# Altium schematic symbol library Transistor.SchLib: 11 symbols
Pins are listed as number, name and electrical type; pins without a type are passive.

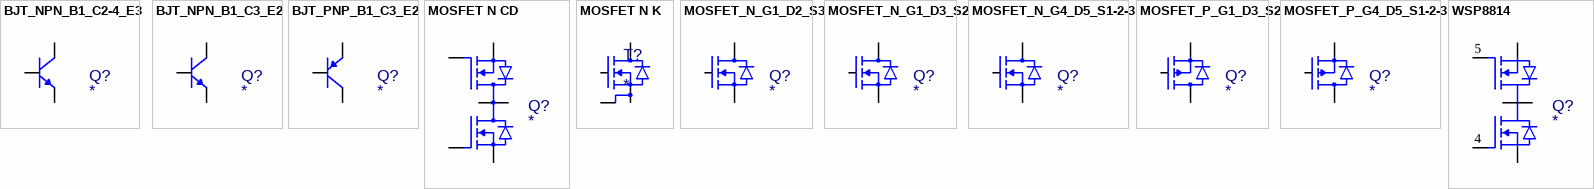
[diagram p0: symbols BJT_NPN_B1_C2-4_E3 to WSP8814]

## BJT_NPN_B1_C2-4_E3
designator Q?
pins: 1 BASE, 2,4 COLLECTOR, 3 EMITTER

## BJT_NPN_B1_C3_E2
designator Q?
pins: 1 BASE, 2 EMITTER, 3 COLLECTOR

## BJT_PNP_B1_C3_E2
designator Q?
pins: 1 BASE, 2 EMITTER, 3 COLLECTOR

## MOSFET N CD
designator Q?
pins: 1 SOURCE1, 2 DRAIN, 3 SOURCE2, 4 GATE2, 5 DRAIN, 6 GATE1

## MOSFET N K
designator T?
pins: D, G, K, S

## MOSFET_N_G1_D2_S3
designator Q?
pins: 1 GATE, 2 DRAIN, 3 SOURCE

## MOSFET_N_G1_D3_S2
designator Q?
pins: 1 GATE, 2 SOURCE, 3 DRAIN

## MOSFET_N_G4_D5_S1-2-3
designator Q?
pins: 1,2,3 SOURCE, 4 GATE, 5 DRAIN

## MOSFET_P_G1_D3_S2
designator Q?
pins: 1 GATE, 2 SOURCE, 3 DRAIN

## MOSFET_P_G4_D5_S1-2-3
designator Q?
pins: 1,2,3 SOURCE, 4 GATE, 5 DRAIN

## WSP8814
designator Q?
MOSFET Common Drain
pins: 1 D, 2 S1, 3 S1, 4 G1, 5 G2, 6 S2, 7 S2, 8 D